# Altium schematic symbol library SCH - MCU - TI - TI MSPM0G351X VQFN-32 RHB.SchLib: 1 symbol
Pins are listed as number, name and electrical type; pins without a type are passive.

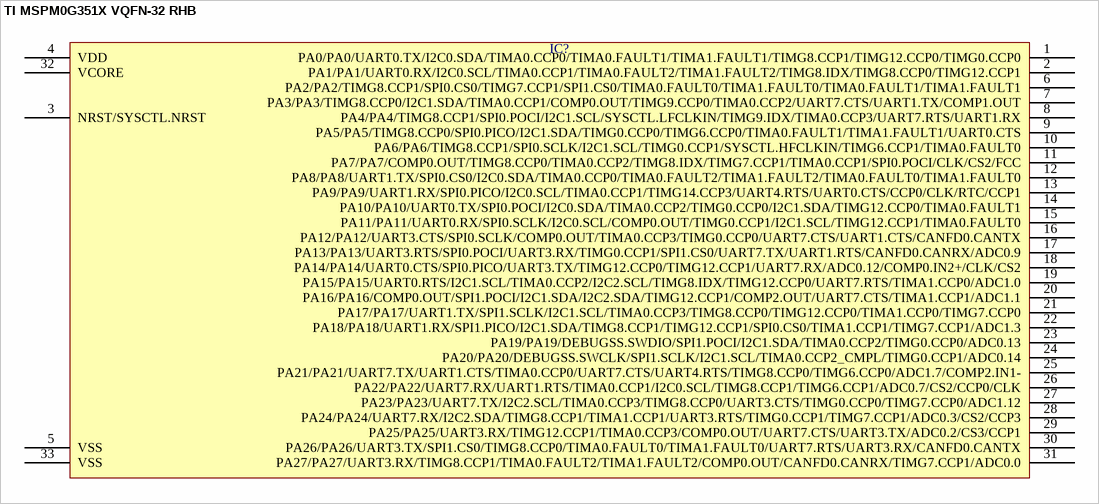
[diagram p0: symbol TI MSPM0G351X VQFN-32 RHB]

## TI MSPM0G351X VQFN-32 RHB
designator IC?  (value not drawn)
pins: 1 PA0/PA0/UART0.TX/I2C0.SDA/TIMA0.CCP0/TIMA0.FAULT1/TIMA1.FAULT1/TIMG8.CCP1/TIMG12.CCP0/TIMG0.CCP0, 2 PA1/PA1/UART0.RX/I2C0.SCL/TIMA0.CCP1/TIMA0.FAULT2/TIMA1.FAULT2/TIMG8.IDX/TIMG8.CCP0/TIMG12.CCP1, 3 NRST/SYSCTL.NRST, 4 VDD, 5 VSS, 6 PA2/PA2/TIMG8.CCP1/SPI0.CS0/TIMG7.CCP1/SPI1.CS0/TIMA0.FAULT0/TIMA1.FAULT0/TIMA0.FAULT1/TIMA1.FAULT1, 7 PA3/PA3/TIMG8.CCP0/I2C1.SDA/TIMA0.CCP1/COMP0.OUT/TIMG9.CCP0/TIMA0.CCP2/UART7.CTS/UART1.TX/COMP1.OUT, 8 PA4/PA4/TIMG8.CCP1/SPI0.POCI/I2C1.SCL/SYSCTL.LFCLKIN/TIMG9.IDX/TIMA0.CCP3/UART7.RTS/UART1.RX, 9 PA5/PA5/TIMG8.CCP0/SPI0.PICO/I2C1.SDA/TIMG0.CCP0/TIMG6.CCP0/TIMA0.FAULT1/TIMA1.FAULT1/UART0.CTS, 10 PA6/PA6/TIMG8.CCP1/SPI0.SCLK/I2C1.SCL/TIMG0.CCP1/SYSCTL.HFCLKIN/TIMG6.CCP1/TIMA0.FAULT0, 11 PA7/PA7/COMP0.OUT/TIMG8.CCP0/TIMA0.CCP2/TIMG8.IDX/TIMG7.CCP1/TIMA0.CCP1/SPI0.POCI/CLK/CS2/FCC, 12 PA8/PA8/UART1.TX/SPI0.CS0/I2C0.SDA/TIMA0.CCP0/TIMA0.FAULT2/TIMA1.FAULT2/TIMA0.FAULT0/TIMA1.FAULT0, 13 PA9/PA9/UART1.RX/SPI0.PICO/I2C0.SCL/TIMA0.CCP1/TIMG14.CCP3/UART4.RTS/UART0.CTS/CCP0/CLK/RTC/CCP1, 14 PA10/PA10/UART0.TX/SPI0.POCI/I2C0.SDA/TIMA0.CCP2/TIMG0.CCP0/I2C1.SDA/TIMG12.CCP0/TIMA0.FAULT1, 15 PA11/PA11/UART0.RX/SPI0.SCLK/I2C0.SCL/COMP0.OUT/TIMG0.CCP1/I2C1.SCL/TIMG12.CCP1/TIMA0.FAULT0, 16 PA12/PA12/UART3.CTS/SPI0.SCLK/COMP0.OUT/TIMA0.CCP3/TIMG0.CCP0/UART7.CTS/UART1.CTS/CANFD0.CANTX, 17 PA13/PA13/UART3.RTS/SPI0.POCI/UART3.RX/TIMG0.CCP1/SPI1.CS0/UART7.TX/UART1.RTS/CANFD0.CANRX/ADC0.9, 18 PA14/PA14/UART0.CTS/SPI0.PICO/UART3.TX/TIMG12.CCP0/TIMG12.CCP1/UART7.RX/ADC0.12/COMP0.IN2+/CLK/CS2, 19 PA15/PA15/UART0.RTS/I2C1.SCL/TIMA0.CCP2/I2C2.SCL/TIMG8.IDX/TIMG12.CCP0/UART7.RTS/TIMA1.CCP0/ADC1.0, 20 PA16/PA16/COMP0.OUT/SPI1.POCI/I2C1.SDA/I2C2.SDA/TIMG12.CCP1/COMP2.OUT/UART7.CTS/TIMA1.CCP1/ADC1.1, 21 PA17/PA17/UART1.TX/SPI1.SCLK/I2C1.SCL/TIMA0.CCP3/TIMG8.CCP0/TIMG12.CCP0/TIMA1.CCP0/TIMG7.CCP0, 22 PA18/PA18/UART1.RX/SPI1.PICO/I2C1.SDA/TIMG8.CCP1/TIMG12.CCP1/SPI0.CS0/TIMA1.CCP1/TIMG7.CCP1/ADC1.3, 23 PA19/PA19/DEBUGSS.SWDIO/SPI1.POCI/I2C1.SDA/TIMA0.CCP2/TIMG0.CCP0/ADC0.13, 24 PA20/PA20/DEBUGSS.SWCLK/SPI1.SCLK/I2C1.SCL/TIMA0.CCP2_CMPL/TIMG0.CCP1/ADC0.14, 25 PA21/PA21/UART7.TX/UART1.CTS/TIMA0.CCP0/UART7.CTS/UART4.RTS/TIMG8.CCP0/TIMG6.CCP0/ADC1.7/COMP2.IN1-, 26 PA22/PA22/UART7.RX/UART1.RTS/TIMA0.CCP1/I2C0.SCL/TIMG8.CCP1/TIMG6.CCP1/ADC0.7/CS2/CCP0/CLK, 27 PA23/PA23/UART7.TX/I2C2.SCL/TIMA0.CCP3/TIMG8.CCP0/UART3.CTS/TIMG0.CCP0/TIMG7.CCP0/ADC1.12, 28 PA24/PA24/UART7.RX/I2C2.SDA/TIMG8.CCP1/TIMA1.CCP1/UART3.RTS/TIMG0.CCP1/TIMG7.CCP1/ADC0.3/CS2/CCP3, 29 PA25/PA25/UART3.RX/TIMG12.CCP1/TIMA0.CCP3/COMP0.OUT/UART7.CTS/UART3.TX/ADC0.2/CS3/CCP1, 30 PA26/PA26/UART3.TX/SPI1.CS0/TIMG8.CCP0/TIMA0.FAULT0/TIMA1.FAULT0/UART7.RTS/UART3.RX/CANFD0.CANTX, 31 PA27/PA27/UART3.RX/TIMG8.CCP1/TIMA0.FAULT2/TIMA1.FAULT2/COMP0.OUT/CANFD0.CANRX/TIMG7.CCP1/ADC0.0, 32 VCORE, 33 VSS